# Altium footprint library 龙邱遥控器V1.PcbLib: 26 footprints (part 1 of 2)
Each footprint in its own frame and in the unit in brackets; x right, y up, seen from the top. Pads: shape width x height; smd on the part's side, far side on the other; paste and mask are expansions set on the pad; w line width, h text height; cw(c..) or ccw(c..) is an arc to the next point about the centre after c.
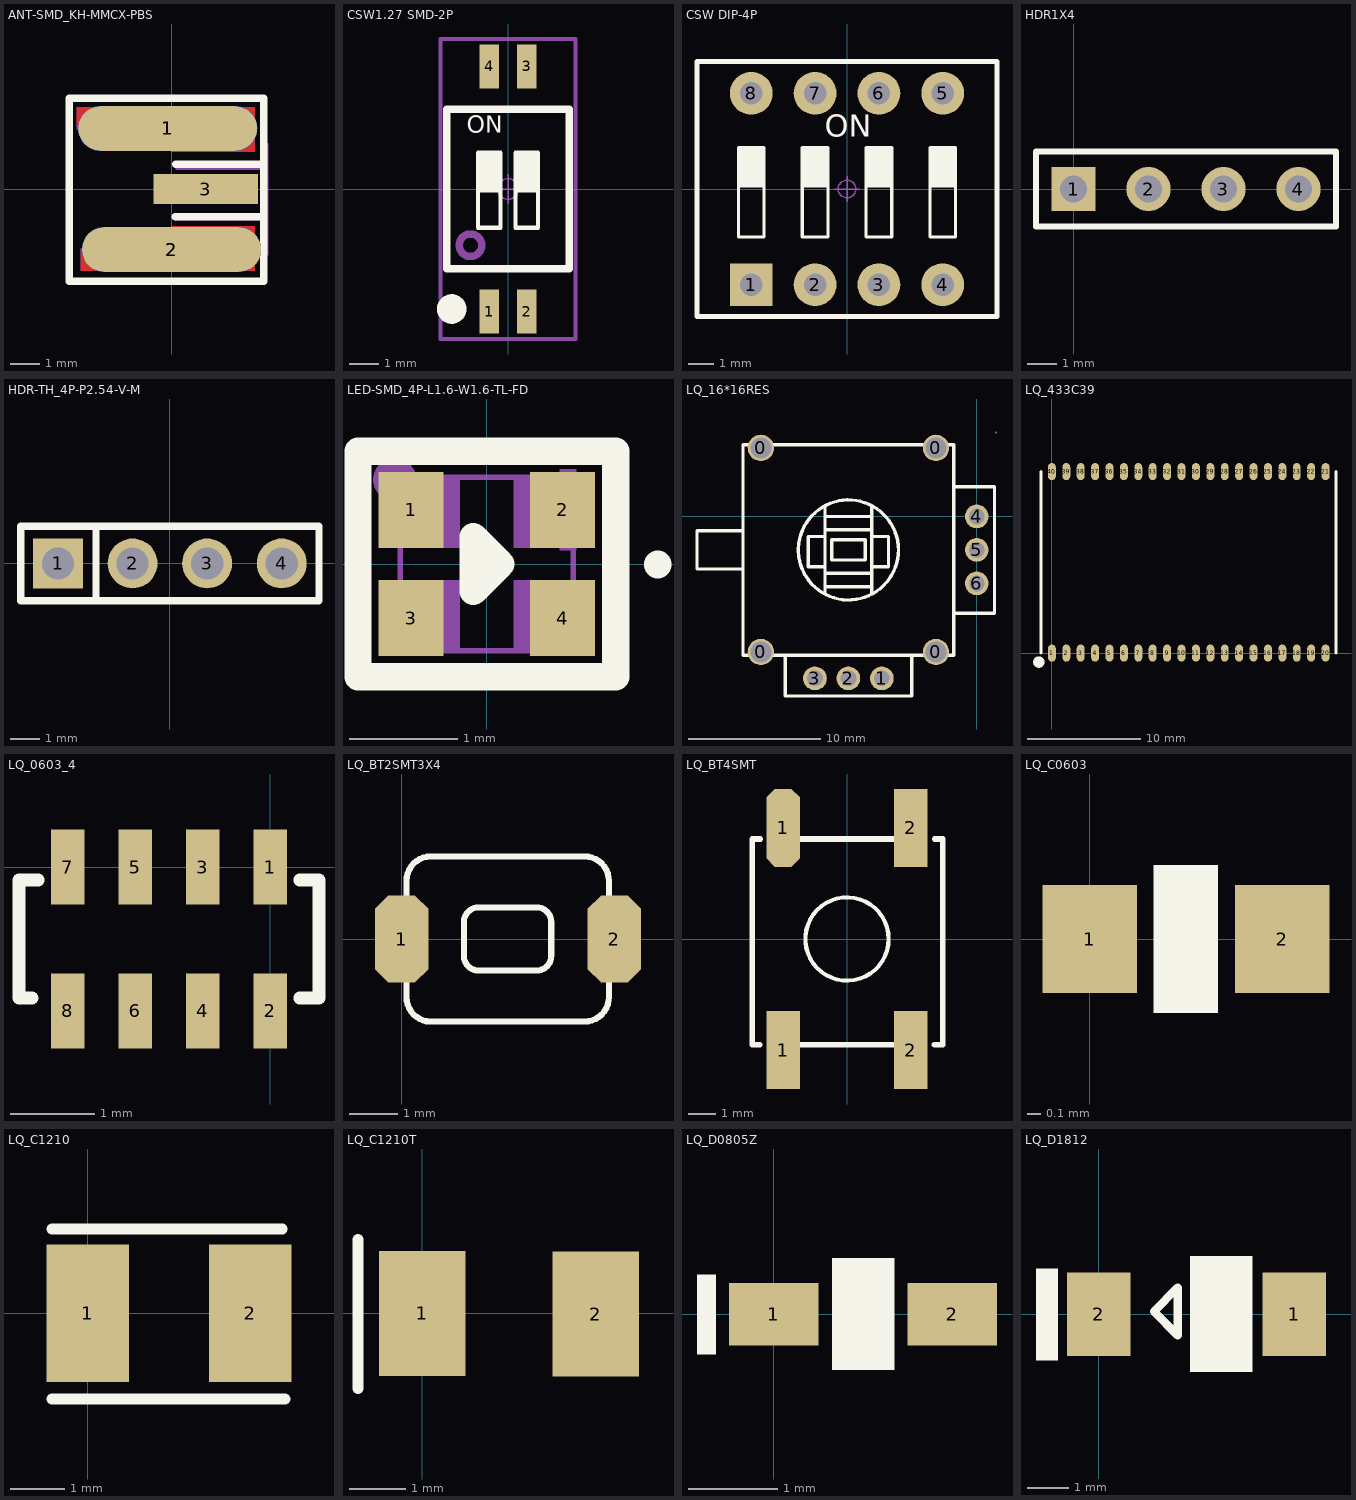
[diagram p0: the footprints below, top view; thin cyan lines are the x and y axes]

## ANT-SMD_KH-MMCX-PBS [mil]
pads (5):
  oval 236.22x59.06 smd: 1(-5,80) 2(0,-80)
  oval 236.22x59.06 smd far side: 1(-5,80) 2(0,-80)
  rect 137.8x39.37 smd paste+0 mask+1.97: 3(45,0)
Top Layer:
  region: -120,-78.74 0,-78.74 0,-49.21 110.23,-49.21 110.23,-108.27 -120,-108.27
  region: -125,78.74 0,78.74 0,49.21 110.24,49.21 110.24,108.27 -125,108.27
Bottom Layer:
  region: -120,-78.74 0,-78.74 0,-49.21 110.23,-49.21 110.23,-108.27 -120,-108.27
  region: -125,78.74 0,78.74 0,49.21 110.24,49.21 110.24,108.27 -125,108.27
Top Overlay:
  lines w10: 5.12,-36.68 122.05,-36.68 ; 5.91,32.58 122.05,32.58 ; -135,-121.65 112.6,-121.65 ; -135,-121.65 -135,120 ; -135,-121.65 112.6,-121.65 ; -135,120 122.05,120 ; -135,120 122.05,120 ; 112.6,-121.65 122.05,-121.65 ; 112.6,-121.65 122.05,-121.65 ; 122.05,-121.65 122.05,120
Mechanical 6:
  region: 122.05,59.84 122.05,36.22 9.55,36.22 5.91,36.22 5.91,32.58 5.91,25.98 5.51,25.59 121.26,25.59 122.05,25.59 122.05,-34.25 7.54,-34.25 5.12,-34.25 5.12,-36.68 5.12,-40.55 5.12,-41.34 122.44,-41.73 122.44,-87.01 122.83,-87.4 127.56,-87.4 127.95,-87.8 127.95,59.45 128.35,59.84

## CSW1.27 SMD-2P [mm] "长：4.14mm，宽：5.4mm，高：2.3mm"
pads (4):
  rect 0.65x1.5 smd: 1(-0.635,-4.15) 2(0.635,-4.15) 3(0.635,4.15) 4(-0.635,4.15)
Top Overlay:
  circle w0.5: c-1.905,-4.064 r0.25
  region: 1.016,1.225 0.254,1.225 0.254,-0.045 1.016,-0.045
  region: -0.254,1.225 -1.016,1.225 -1.016,-0.045 -0.254,-0.045
  lines w0.15: -1.016,-0.045 -0.254,-0.045 ; 0.254,-0.045 1.016,-0.045 ; -1.016,-1.315 -1.016,1.225 -0.254,1.225 -0.254,-1.315 -1.016,-1.315 ; 0.254,-1.315 0.254,1.225 1.016,1.225 1.016,-1.315 0.254,-1.315
  lines w0.254: -2.07,-2.7 2.07,-2.7 2.07,2.7 -2.07,2.7 -2.07,-2.7
  text "ON" at -1.397,1.696 h1
Mechanical 13:
  circle w0.254: c-1.27,-1.905 r0.381
  lines w0.15: -2.032,-2.7 -2.032,2.7 2.032,2.7 2.032,-2.7 -2.032,-2.7
Mechanical 15:
  circle w0.05: c0,0 r0.35
  lines w0.05: -0.5,0 0.5,0 ; 0,-0.5 0,0.5
  lines w0.15: -2.286,-5.08 -2.286,5.08 2.286,5.08 2.286,-5.08 2.159,-5.08 -2.286,-5.08
3D body "CSW1.27-SMD-2P.STEP": height 2.35, standoff 0, extent -2.07,-4.35 2.07,4.35

## CSW DIP-4P [mm] "11.7*9.9*7mm"
pads (8):
  rect 1.7x1.7 hole 0.9: 1(-3.81,-3.81)
  round 1.7 hole 0.9: 2(-1.27,-3.81) 3(1.27,-3.81) 4(3.81,-3.81) 5(3.81,3.81) 6(1.27,3.81) 7(-1.27,3.81) 8(-3.81,3.81)
Top Overlay:
  rectangle: 3.302,0.127 4.318,1.651
  rectangle: 0.762,0.127 1.778,1.651
  rectangle: -1.778,0.127 -0.762,1.651
  rectangle: -4.318,0.127 -3.302,1.651
  lines w0.127: -4.318,0.127 -3.302,0.127 ; -1.778,0.127 -0.762,0.127 ; 0.762,0.127 1.778,0.127 ; 3.302,0.127 4.318,0.127 ; -4.318,-1.905 -3.302,-1.905 -3.302,1.651 -4.318,1.651 -4.318,-1.905 ; -1.778,-1.905 -0.762,-1.905 -0.762,1.651 -1.778,1.651 -1.778,-1.905 ; 0.762,-1.905 1.778,-1.905 1.778,1.651 0.762,1.651 0.762,-1.905 ; 3.302,-1.905 4.318,-1.905 4.318,1.651 3.302,1.651 3.302,-1.905
  lines w0.2: -5.969,-5.08 5.969,-5.08 5.969,5.08 -5.969,5.08 -5.969,-5.08
  text "ON" at -0.889,1.778 h1.52
Mechanical 15:
  circle w0.05: c0,0 r0.35
  lines w0.05: -0.5,0 0.5,0 ; 0,-0.5 0,0.5
3D body "CSW DIP-4P.STEP": height 6.65, standoff -3.15, extent -5.86,-4.95 5.86,4.95

## HDR1X4 [mm] "Connector; Header; 4 Position"
pads (4):
  rect 1.5x1.5 hole 0.9: 1(0,0)
  round 1.5 hole 0.9: 2(2.54,0) 3(5.08,0) 4(7.62,0)
Top Overlay:
  lines w0.2: -1.27,-1.27 8.89,-1.27 8.89,1.27 -1.27,1.27 -1.27,-1.27

## HDR-TH_4P-P2.54-V-M [mm]
pads (4):
  rect 1.7x1.7 hole 1.1: 1(-3.81,0)
  round 1.7 hole 1.1: 2(-1.27,0) 3(1.27,0) 4(3.81,0)
Top Overlay:
  lines w0.254: -2.516,-1.27 -2.516,1.27 ; -2.516,1.27 -5.08,1.27 -5.08,-1.27 5.08,-1.27 5.08,1.27 -2.516,1.27
Mechanical 15:
  region: 3.49,0.32 4.13,0.32 4.13,-0.32 3.49,-0.32
  region: 0.95,0.32 1.59,0.32 1.59,-0.32 0.95,-0.32
  region: -1.59,0.32 -0.95,0.32 -0.95,-0.32 -1.59,-0.32
  region: -4.13,0.32 -3.49,0.32 -3.49,-0.32 -4.13,-0.32
  region: -5.02,-1.25 -5.02,-1.225 -5.055,-1.19 -5.105,-1.19 -5.14,-1.225 -5.14,-1.25 -5.14,-1.275 -5.105,-1.31 -5.055,-1.31 -5.02,-1.275 -5.02,-1.25
  lines w0.051: -5.08,-1.25 5.08,-1.25 5.08,1.25 -5.08,1.25 -5.08,-1.25

## LED-SMD_4P-L1.6-W1.6-TL-FD [mm]
pads (4):
  rect 0.6x0.7 smd mask+0.051: 1(-0.7,0.5) 2(0.7,0.5) 3(-0.7,-0.5) 4(0.7,-0.5)
Top Overlay:
  lines w0.254: 1.582,-0.008 ccw(c1.524,0) 1.582,0 ; -1.19,-1.04 1.19,-1.04 1.19,1.04 -1.19,1.04 -1.19,-1.04 ; -0.127,-0.254 -0.127,0.254 0.127,0 -0.127,-0.254
Mechanical 6:
  circle w0.2: c-0.85,0.78 r0.1
  region: 0.5,0.575 1,0.575 1,0.425 0.5,0.425
  region: 0.675,0.875 0.825,0.875 0.825,0.125 0.675,0.125
Mechanical 15:
  region: -0.74,0.8 -0.74,0.825 -0.775,0.86 -0.825,0.86 -0.86,0.825 -0.86,0.8 -0.86,0.775 -0.825,0.74 -0.775,0.74 -0.74,0.775 -0.74,0.8
  region: 0.25,0.8 0.8,0.8 0.8,0.15 0.25,0.15
  region: 0.25,-0.15 0.8,-0.15 0.8,-0.8 0.25,-0.8
  region: -0.8,0.8 -0.25,0.8 -0.25,0.15 -0.8,0.15
  region: -0.8,-0.15 -0.25,-0.15 -0.25,-0.8 -0.8,-0.8
  lines w0.051: -0.8,-0.8 0.8,-0.8 0.8,0.8 -0.8,0.8 -0.8,-0.8

## LQ_16*16RES [mm]
pads (10):
  round 2 hole 1.6: 0(-16.401,-10.29) 0(-16.401,5.21) 0(-3.101,-10.29) 0(-3.101,5.21)
  round 1.8 hole 1.2: 1(-7.211,-12.291) 2(-9.751,-12.291) 3(-12.291,-12.291) 4(0,0) 5(0,-2.54) 6(0,-5.08)
Top Overlay:
  circle w0.254: c-9.751,-2.54 r3.8
  lines w0.254: -17.751,-10.541 -17.751,5.459 ; -17.751,-10.539 -17.362,-10.539 ; -17.751,-3.99 -21.251,-3.99 -21.251,-1.09 -17.751,-1.09 ; -17.751,5.46 -17.362,5.46 ; -15.44,-10.539 -4.062,-10.539 ; -15.44,5.46 -4.062,5.46 ; -14.551,-10.54 -14.551,-13.64 -4.951,-13.64 -4.951,-10.54 ; -11.529,-5.842 -11.529,0.762 ; -11.529,-5.334 -7.973,-5.334 ; -11.529,-4.318 -7.973,-4.318 ; -11.529,-3.81 -12.799,-3.81 -12.799,-1.524 -11.529,-1.524 ; -11.529,-1.016 -7.973,-1.016 ; -11.529,0 -7.973,0 ; -7.973,-5.842 -7.973,0.762 ; -7.973,-3.81 -6.703,-3.81 -6.703,-3.556 -6.703,-1.524 -7.973,-1.524 ; -2.14,-10.539 -1.75,-10.539 -1.75,5.461 ; -2.14,5.46 -1.75,5.46 ; -1.751,-7.34 1.349,-7.34 1.349,2.26 -1.751,2.26 ; -11.021,-3.302 -8.481,-3.302 -8.481,-1.778 -11.021,-1.778 -11.021,-3.302
Keep-Out Layer:
  board cut-out: -15.601,-10.29 -15.601,-10.184 -15.655,-9.981 -15.761,-9.798 -15.91,-9.649 -16.092,-9.544 -16.296,-9.489 -16.506,-9.489 -16.71,-9.544 -16.892,-9.649 -17.041,-9.798 -17.146,-9.981 -17.201,-10.184 -17.201,-10.29 -17.201,-10.395 -17.146,-10.598 -17.041,-10.781 -16.892,-10.93 -16.71,-11.035 -16.506,-11.09 -16.296,-11.09 -16.092,-11.035 -15.91,-10.93 -15.761,-10.781 -15.655,-10.598 -15.601,-10.395 -15.601,-10.29
  board cut-out: -2.301,5.21 -2.301,5.315 -2.356,5.518 -2.461,5.701 -2.61,5.85 -2.793,5.955 -2.996,6.01 -3.207,6.01 -3.41,5.955 -3.593,5.85 -3.742,5.701 -3.847,5.518 -3.901,5.315 -3.901,5.21 -3.901,5.104 -3.847,4.901 -3.742,4.718 -3.593,4.569 -3.41,4.464 -3.207,4.409 -2.996,4.409 -2.793,4.464 -2.61,4.569 -2.461,4.718 -2.356,4.901 -2.301,5.104 -2.301,5.21
  board cut-out: -2.301,-10.29 -2.301,-10.184 -2.356,-9.981 -2.461,-9.798 -2.61,-9.649 -2.793,-9.544 -2.996,-9.489 -3.207,-9.489 -3.41,-9.544 -3.593,-9.649 -3.742,-9.798 -3.847,-9.981 -3.901,-10.184 -3.901,-10.29 -3.901,-10.395 -3.847,-10.598 -3.742,-10.781 -3.593,-10.93 -3.41,-11.035 -3.207,-11.09 -2.996,-11.09 -2.793,-11.035 -2.61,-10.93 -2.461,-10.781 -2.356,-10.598 -2.301,-10.395 -2.301,-10.29
  board cut-out: -15.601,5.21 -15.601,5.315 -15.655,5.518 -15.761,5.701 -15.91,5.85 -16.092,5.955 -16.296,6.01 -16.506,6.01 -16.71,5.955 -16.892,5.85 -17.041,5.701 -17.146,5.518 -17.201,5.315 -17.201,5.21 -17.201,5.104 -17.146,4.901 -17.041,4.718 -16.892,4.569 -16.71,4.464 -16.506,4.409 -16.296,4.409 -16.092,4.464 -15.91,4.569 -15.761,4.718 -15.655,4.901 -15.601,5.104 -15.601,5.21
Mechanical 1:
  circle w0.005: c-3.101,5.21 r0.8
  circle w0.005: c-3.101,-10.29 r0.8
  circle w0.005: c-16.401,5.21 r0.8
  circle w0.005: c-16.401,-10.29 r0.8
Mechanical 15:
  region: 1.536,6.365 1.535,6.39 1.5,6.424 1.452,6.424 1.417,6.39 1.416,6.365 1.417,6.341 1.452,6.307 1.5,6.307 1.535,6.341 1.536,6.365
  region: -11.791,-12.291 -11.792,-12.192 -11.869,-12.01 -12.009,-11.871 -12.192,-11.796 -12.39,-11.796 -12.573,-11.871 -12.713,-12.01 -12.79,-12.192 -12.791,-12.291 -12.79,-12.39 -12.713,-12.572 -12.573,-12.711 -12.39,-12.787 -12.192,-12.787 -12.009,-12.711 -11.869,-12.572 -11.792,-12.39 -11.791,-12.291
  region: -9.251,-12.291 -9.252,-12.192 -9.329,-12.01 -9.469,-11.871 -9.652,-11.796 -9.85,-11.796 -10.033,-11.871 -10.173,-12.01 -10.25,-12.192 -10.251,-12.291 -10.25,-12.39 -10.173,-12.572 -10.033,-12.711 -9.85,-12.787 -9.652,-12.787 -9.469,-12.711 -9.329,-12.572 -9.252,-12.39 -9.251,-12.291
  region: -6.711,-12.291 -6.712,-12.192 -6.789,-12.01 -6.929,-11.871 -7.112,-11.796 -7.31,-11.796 -7.493,-11.871 -7.633,-12.01 -7.71,-12.192 -7.711,-12.291 -7.71,-12.39 -7.633,-12.572 -7.493,-12.711 -7.31,-12.787 -7.112,-12.787 -6.929,-12.711 -6.789,-12.572 -6.712,-12.39 -6.711,-12.291
  region: 0.5,-5.08 0.499,-4.981 0.422,-4.799 0.282,-4.66 0.099,-4.584 -0.099,-4.584 -0.282,-4.66 -0.422,-4.799 -0.499,-4.981 -0.5,-5.08 -0.499,-5.179 -0.422,-5.361 -0.282,-5.5 -0.099,-5.576 0.099,-5.576 0.282,-5.5 0.422,-5.361 0.499,-5.179 0.5,-5.08
  region: 0.5,-2.54 0.499,-2.441 0.422,-2.259 0.282,-2.12 0.099,-2.044 -0.099,-2.044 -0.282,-2.12 -0.422,-2.259 -0.499,-2.441 -0.5,-2.54 -0.499,-2.639 -0.422,-2.821 -0.282,-2.96 -0.099,-3.036 0.099,-3.036 0.282,-2.96 0.422,-2.821 0.499,-2.639 0.5,-2.54
  region: 0.5,0 0.499,0.099 0.422,0.281 0.282,0.42 0.099,0.496 -0.099,0.496 -0.282,0.42 -0.422,0.281 -0.499,0.099 -0.5,0 -0.499,-0.099 -0.422,-0.281 -0.282,-0.42 -0.099,-0.496 0.099,-0.496 0.282,-0.42 0.422,-0.281 0.499,-0.099 0.5,0
Multi-Layer:
  pour cut-out: -2.301,5.21 -2.301,5.315 -2.356,5.518 -2.461,5.701 -2.61,5.85 -2.793,5.955 -2.996,6.01 -3.207,6.01 -3.41,5.955 -3.593,5.85 -3.742,5.701 -3.847,5.518 -3.901,5.315 -3.901,5.21 -3.901,5.104 -3.847,4.901 -3.742,4.718 -3.593,4.569 -3.41,4.464 -3.207,4.409 -2.996,4.409 -2.793,4.464 -2.61,4.569 -2.461,4.718 -2.356,4.901 -2.301,5.104 -2.301,5.21
  pour cut-out: -2.301,-10.29 -2.301,-10.184 -2.356,-9.981 -2.461,-9.798 -2.61,-9.649 -2.793,-9.544 -2.996,-9.489 -3.207,-9.489 -3.41,-9.544 -3.593,-9.649 -3.742,-9.798 -3.847,-9.981 -3.901,-10.184 -3.901,-10.29 -3.901,-10.395 -3.847,-10.598 -3.742,-10.781 -3.593,-10.93 -3.41,-11.035 -3.207,-11.09 -2.996,-11.09 -2.793,-11.035 -2.61,-10.93 -2.461,-10.781 -2.356,-10.598 -2.301,-10.395 -2.301,-10.29
  pour cut-out: -15.601,5.21 -15.601,5.315 -15.655,5.518 -15.761,5.701 -15.91,5.85 -16.092,5.955 -16.296,6.01 -16.506,6.01 -16.71,5.955 -16.892,5.85 -17.041,5.701 -17.146,5.518 -17.201,5.315 -17.201,5.21 -17.201,5.104 -17.146,4.901 -17.041,4.718 -16.892,4.569 -16.71,4.464 -16.506,4.409 -16.296,4.409 -16.092,4.464 -15.91,4.569 -15.761,4.718 -15.655,4.901 -15.601,5.104 -15.601,5.21
  pour cut-out: -15.601,-10.29 -15.601,-10.184 -15.655,-9.981 -15.761,-9.798 -15.91,-9.649 -16.092,-9.544 -16.296,-9.489 -16.506,-9.489 -16.71,-9.544 -16.892,-9.649 -17.041,-9.798 -17.146,-9.981 -17.201,-10.184 -17.201,-10.29 -17.201,-10.395 -17.146,-10.598 -17.041,-10.781 -16.892,-10.93 -16.71,-11.035 -16.506,-11.09 -16.296,-11.09 -16.092,-11.035 -15.91,-10.93 -15.761,-10.781 -15.655,-10.598 -15.601,-10.395 -15.601,-10.29

## LQ_433C39 [mm]
pads (40):
  oval 0.7x1.5 smd: 1(0,0) 2(1.27,0) 3(2.54,0) 4(3.81,0) 5(5.08,0) 6(6.35,0) 7(7.62,0) 8(8.89,0) 9(10.16,0) 10(11.43,0) 11(12.7,0) 12(13.97,0) 13(15.24,0) 14(16.51,0) 15(17.78,0) 16(19.05,0) 17(20.32,0) 18(21.59,0) 19(22.86,0) 20(24.13,0) 21(24.13,16) 22(22.86,16) 23(21.59,16) 24(20.32,16) 25(19.05,16) 26(17.78,16) 27(16.51,16) 28(15.24,16) 29(13.97,16) 30(12.7,16) 31(11.43,16) 32(10.16,16) 33(8.89,16) 34(7.62,16) 35(6.35,16) 36(5.08,16) 37(3.81,16) 38(2.54,16) 39(1.27,16) 40(0,16)
Top Overlay:
  circle w0.5: c-1.15,-0.8 r0.25
  lines w0.254: -0.95,0 -0.95,16 ; 25.05,0 25.05,16

## LQ_0603_4 [mm]
pads (8):
  rect 0.4x0.889 smd: 1(0,0) 2(0,-1.702) 3(-0.8,0) 4(-0.8,-1.702) 5(-1.6,0) 6(-1.6,-1.702) 7(-2.4,0) 8(-2.4,-1.702)
Top Overlay:
  lines w0.152: -2.826,-1.549 -2.978,-1.549 -2.978,-0.152 -2.749,-0.152 ; 0.349,-1.549 0.578,-1.549 0.578,-0.152 ; 0.349,-0.152 0.553,-0.152
3D body "User Library-TC164.step": height 0.55, standoff 0, extent -2.8,-1.64 0.4,-0.04

## LQ_BT2SMT3X4 [mm]
pads (2):
  oct 1.1x1.8 smd: 1(0,0) 2(4.38,0)
Top Overlay:
  lines w0.127: 0.5,-1.7 3.769,-1.7 ccw(c3.769,-1.2) 4.269,-1.2 4.269,1.2 ccw(c3.769,1.2) 3.769,1.7 0.6,1.7 ccw(c0.6,1.2) 0.1,1.2 0.1,-1.2 ccw(c0.6,-1.2) 0.6,-1.7 ; 1.283,-0.349 ccw(c1.583,-0.349) 1.583,-0.649 2.783,-0.649 ccw(c2.783,-0.349) 3.083,-0.349 3.083,0.351 ccw(c2.783,0.351) 2.783,0.651 1.583,0.651 ccw(c1.583,0.351) 1.283,0.351 1.283,-0.349
3D body "LQ_PBT3x4x2.STEP": height 2, standoff 0, extent -0.26,-1.44 4.64,1.46

## LQ_BT4SMT [mm]
pads (4):
  rect 1.2x2.8 smd: 1(-2.3,-4) 2(2.3,-4) 2(2.3,4)
  oct 1.2x2.8 smd: 1(-2.3,4)
Top Overlay:
  circle w0.15: c0,0 r1.5
  lines w0.2: -3.14,-3.8 -3.418,-3.8 -3.418,3.6 -3.12,3.6 ; -1.68,-3.8 1.64,-3.8 ; -1.65,3.6 1.71,3.6 ; 3.15,-3.8 3.44,-3.8 3.44,3.6 3.16,3.6
3D body "User Library-PUSH BUTTON-3.step": height 4.54, standoff 0, extent -3,-5.08 3,4.92

## LQ_C0603 [mm]
pads (2):
  rect 0.7x0.8 smd: 1(0,0) 2(1.422,0)
Top Overlay:
  rectangle: 0.47,-0.55 0.95,0.55
3D body "LQ_C0603.step": height 0.3, standoff 0, extent -0.09,-0.4 1.51,0.4

## LQ_C1210 [mil]
pads (2):
  rect 60x100 smd: 1(0,0) 2(118.11,0)
Top Overlay:
  lines w7.87: -25.98,-62.2 143.31,-62.2 ; -25.98,61.42 141.34,61.42
3D body "CAP-1210.step": height 98.43, standoff 0, extent -1.18,-49.21 124.81,49.21

## LQ_C1210T [mm]
pads (2):
  rect 1.524x2.2 smd: 1(0,0) 2(3.06,-0.01)
Top Overlay:
  lines w0.2: -1.13,-1.32 -1.13,1.3
3D body "LQ_C3528TCaseB.STEP": height 1.9, standoff 0, extent -0.21,-1.41 3.29,1.39

## LQ_D0805Z [mm]
pads (2):
  rect 1x0.7 smd: 1(0,0) 2(2,0)
Top Overlay:
  rectangle: -0.86,-0.45 -0.65,0.45
  rectangle: 0.65,-0.62 1.35,0.63
3D body "LQ_Diode-SOD323.step": height 1.1, standoff 0, extent -0.33,-0.625 2.37,0.625

## LQ_D1812 [mil]
pads (2):
  rect 60x78.74 smd: 1(185,0) 2(0,0)
Top Overlay:
  rectangle: 86.61,-54.72 145.28,55.12
  rectangle: -59.06,-43.7 -38.19,43.31
  lines w7.87: 52.37,2.57 74.81,-19.87 74.81,25.02 52.37,2.57
3D body "Diode-SMA.step": height 102.36, standoff 1.02, extent -14.96,-54.71 201.58,55.53